# Altium schematic symbol library LM2576SX-ADJ.Schlib: 1 symbol
Pins are listed as number, name and electrical type; pins without a type are passive.

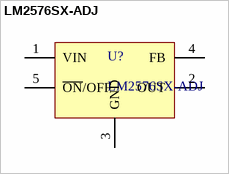
[diagram p0: symbol LM2576SX-ADJ]

## LM2576SX-ADJ
designator U?
Buck Switching Regulator IC Positive Adjustable 1.23V 1 Output 3A TO-263-6, D²Pak (5 Leads + Tab), TO-263BA
pins: 1 VIN, 2 OUT, 3 GND, 4 FB, 5 ~{ON}/OFF